# Altium schematic symbol library 05085C102KAT2A.SchLib: 1 symbol
Pins are listed as number, name and electrical type; pins without a type are passive.

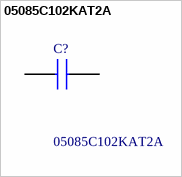
[diagram p0: symbol 05085C102KAT2A]

## 05085C102KAT2A
designator C?
Cap Ceramic 0.001uF 50V X7R 10% Wide Terminal SMD 0508 125C Embossed T/R; Manufacturer_Name: Kyocera AVX; Geometry.Height: 0.76mm; Mouser Part Number: 581-05085C102KAT2A; Mouser Price/Stock: https://www.mouser.co.uk/ProductDetail/AVX/05085C102KAT2A?qs=bvr9a6HSd9Vjw0t4sQ1KPQ%3D%3D; Manufacturer_Part_Number: 05085C102KAT2A; Datasheet Link: https://datasheets.kyocera-avx.com/LICC.pdf
footprint CAPC1320X76N
pins: 1, 2